# Altium footprint library PAL.PcbLib: 271 footprints (part 7 of 17)
Each footprint in its own frame and in the unit in brackets; x right, y up, seen from the top. Pads: shape width x height; smd on the part's side, far side on the other; paste and mask are expansions set on the pad; w line width, h text height; cw(c..) or ccw(c..) is an arc to the next point about the centre after c.
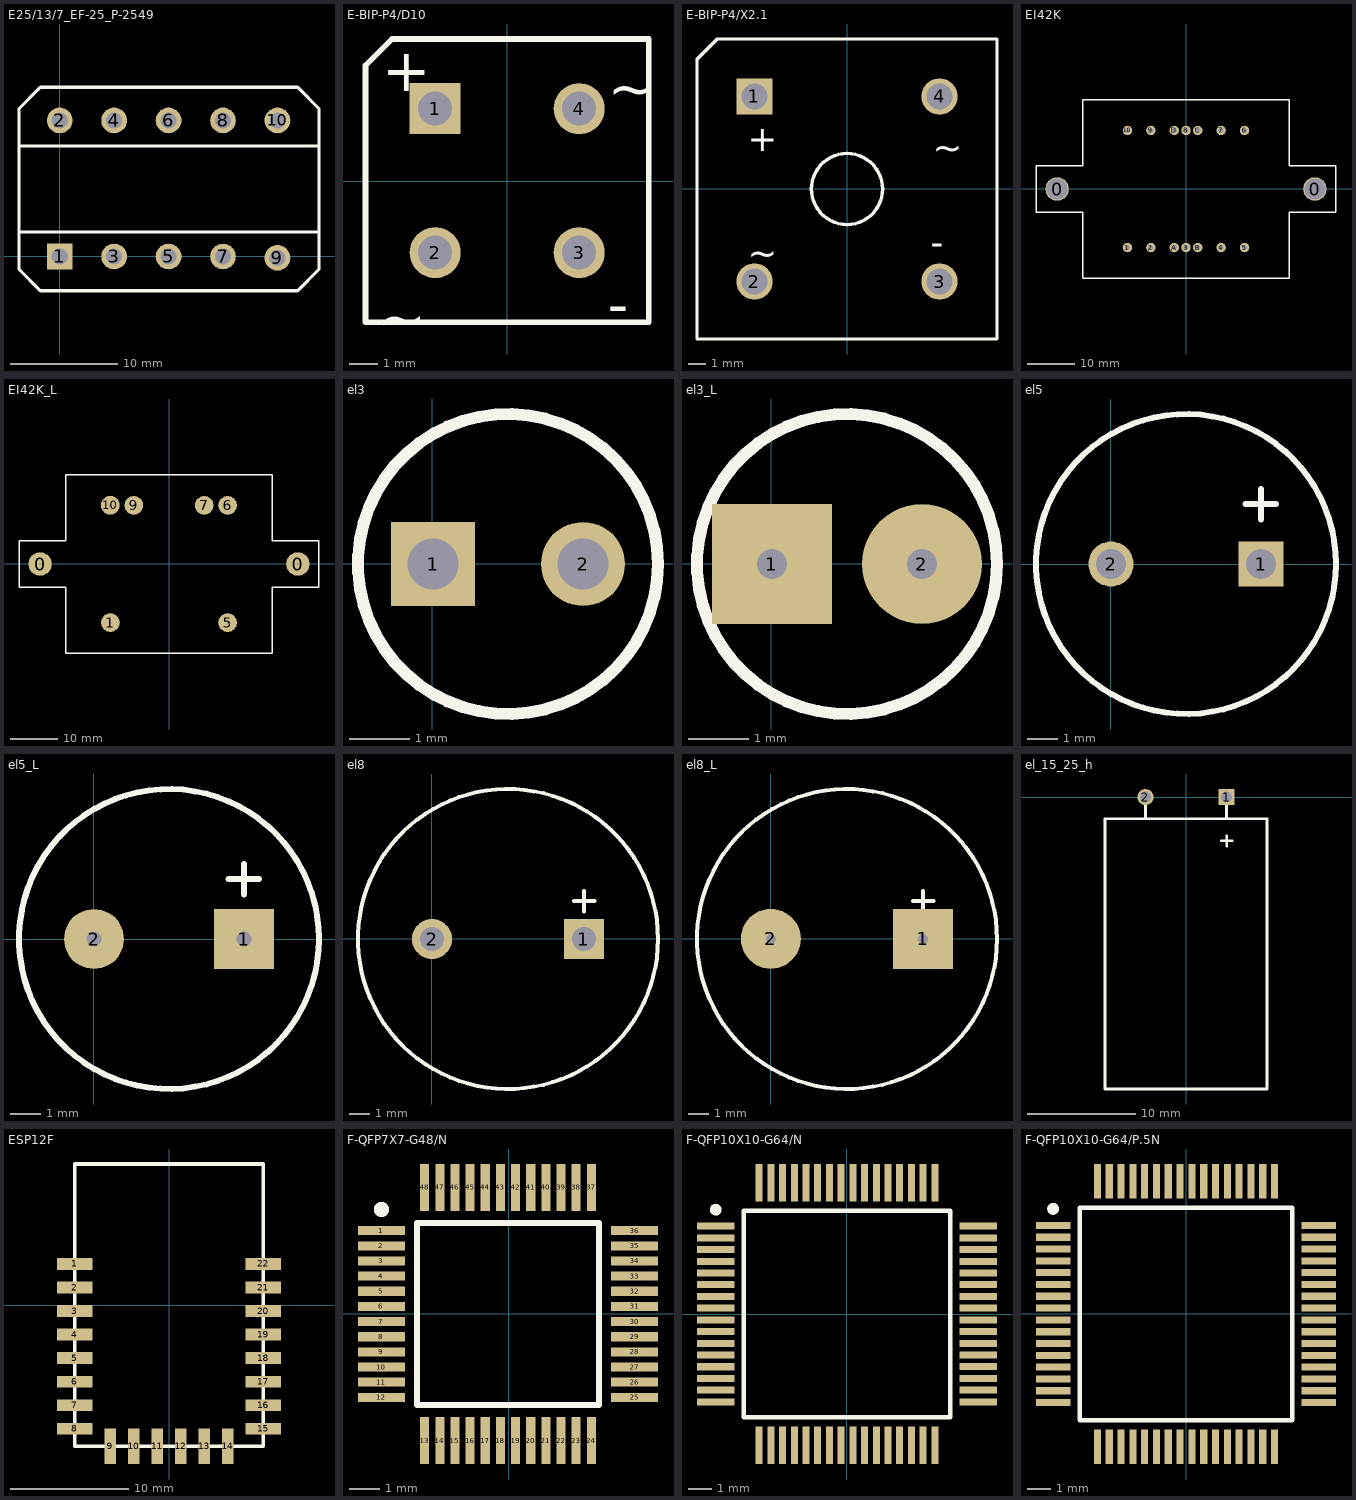
[diagram p6: the footprints below, top view; thin cyan lines are the x and y axes]

## E25/13/7_EF-25_P-2549 [mm]
pads (10):
  rect 2.4x2.4 on Top hole 1.5: 1(0,0)
  round 2.4 on Top hole 1.5: 2(0,12.7) 3(5.08,0) 4(5.08,12.7) 5(10.16,0) 6(10.16,12.7) 7(15.24,0) 8(15.24,12.7) 9(20.32,-0.125) 10(20.32,12.7)
Top Overlay:
  lines w0.3: -3.8,2.3 24.2,2.3 ; -3.8,10.3 24.1,10.3 ; -3.8,-1.2 -1.8,-3.2 22.2,-3.2 24.2,-1.2 24.2,13.8 22.2,15.8 -1.8,15.8 -3.8,13.8 -3.8,-1.2

## E-BIP-P4/D10 [mm]
pads (4):
  rect 1.8x1.8 on Top hole 1.2: 1(-2.536,2.552)
  round 1.8 on Top hole 1.2: 2(-2.536,-2.528) 3(2.544,-2.528) 4(2.544,2.552)
Top Overlay:
  lines w0.2: -4.996,-4.988 5.004,-4.988 5.004,5.012 -4.06,5.012 -4.996,4.076 -4.996,-4.988
  text "~" at 3.56,2.552 h1.5
  text "~" at -4.568,-5.576 h1.5
  text "-" at 3.56,-5.068 h1.5
  text "+" at -4.406,3.176 h1.5

## E-BIP-P4/X2.1 [mm]
pads (4):
  rect 2.1x2.1 on Top hole 1.5: 1(-5.337,5.325)
  round 2.1 on Top hole 1.5: 2(-5.337,-5.345) 3(5.333,-5.345) 4(5.333,5.325)
Top Overlay:
  circle w0.2: c-0.002,-0.01 r2.05
  lines w0.2: -8.652,-8.66 -8.652,7.464 -7.476,8.64 8.648,8.64 8.648,-8.66 -8.652,-8.66
  text "+" at -5.725,2.157 h1.5
  text "-" at 4.823,-3.819 h1.5
  text "~" at 4.943,1.649 h1.5
  text "~" at -5.725,-4.447 h1.5

## EI42K [mm]
pads (16):
  round 5 on Top hole 4.5: 0(-27.504,-0.003) 0(27.496,-0.003)
  round 2 on Top hole 1.1: 1(-12.504,-12.503) 2(-7.504,-12.503) 3(-0.004,-12.503) 4(7.496,-12.503) 5(12.496,-12.503) 6(12.496,12.497) 7(7.496,12.497) 8(-0.004,12.497) 9(-7.504,12.497) 10(-12.504,12.497) A(-2.504,-12.503) B(2.496,-12.503) C(2.496,12.497) D(-2.504,12.497)
Top Overlay:
  lines w0.3: -32.004,-5.003 -32.004,-0.003 -32.004,4.997 -22.004,4.997 -22.004,18.997 21.996,18.997 21.996,4.997 31.996,4.997 31.996,-0.003 31.996,-5.003 21.996,-5.003 21.996,-19.003 -22.004,-19.003 -22.004,-5.003 -32.004,-5.003

## EI42K_L [mm]
pads (8):
  round 5 on Top hole 0.5: 0(-27.504,-0.003) 0(27.496,-0.003)
  round 4 on Top hole 0.5 paste+0 mask+0.5: 1(-12.504,-12.503)
  round 4 on Top hole 0.5: 5(12.496,-12.503) 6(12.496,12.497) 7(7.496,12.497) 9(-7.504,12.497) 10(-12.525,12.525)
Top Overlay:
  lines w0.3: -32.004,-5.003 -32.004,-0.003 -32.004,4.997 -22.004,4.997 -22.004,18.997 21.996,18.997 21.996,4.997 31.996,4.997 31.996,-0.003 31.996,-5.003 21.996,-5.003 21.996,-19.003 -22.004,-19.003 -22.004,-5.003 -32.004,-5.003

## el3 [mm]
pads (2):
  rect 1.4x1.4 on Top hole 0.85: 1(0.011,-0.008)
  round 1.4 on Top hole 0.85: 2(2.511,-0.008)
Top Overlay:
  circle w0.2: c1.261,-0.008 r2.5
  lines w0.3: -0.389,-0.008 0.411,-0.008 ; 0.011,-0.408 0.011,0.392

## el3_L [mm]
pads (2):
  rect 2x2 on Top hole 0.5: 1(0.011,-0.008)
  round 2 on Top hole 0.5: 2(2.511,-0.008)
Top Overlay:
  circle w0.2: c1.261,-0.008 r2.5
  lines w0.3: -0.389,-0.008 0.411,-0.008 ; 0.011,-0.408 0.011,0.392

## el5 [mm]
pads (2):
  rect 1.5x1.5 on Top hole 1: 1(5.001,0.007)
  round 1.5 on Top hole 1: 2(0.001,0.007)
Top Overlay:
  circle w0.2: c2.501,0.007 r5
  lines w0.2: 4.485,2.007 5.501,2.007 ; 5.001,1.491 5.001,2.507

## el5_L [mm]
pads (2):
  rect 2x2 on Top hole 0.5: 1(5.001,0.007)
  round 2 on Top hole 0.5: 2(0.001,0.007)
Top Overlay:
  circle w0.2: c2.501,0.007 r5
  lines w0.2: 4.485,2.007 5.501,2.007 ; 5.001,1.491 5.001,2.507

## el8 [mm]
pads (2):
  rect 2x2 on Top hole 1.2: 1(7.611,-0.011)
  round 2 on Top hole 1.2: 2(0.011,-0.011)
Top Overlay:
  circle w0.2: c3.811,-0.011 r7.5
  lines w0.2: 7.111,1.889 8.127,1.889 ; 7.611,1.373 7.611,2.389

## el8_L [mm]
pads (2):
  rect 3x3 on Top hole 0.5: 1(7.62,0)
  round 3 on Top hole 0.5: 2(0,0)
Top Overlay:
  circle w0.2: c3.811,-0.011 r7.5
  lines w0.2: 7.111,1.889 8.127,1.889 ; 7.611,1.373 7.611,2.389

## el_15_25_h [mm]
pads (2):
  rect 1.5x1.5 on Top hole 1: 1(3.75,0)
  round 1.5 on Top hole 1: 2(-3.75,0)
Top Overlay:
  lines w0.2: 3.26,-4.043 4.276,-4.043 ; 3.776,-4.559 3.776,-3.543
  lines w0.25: -3.75,-2 -3.75,0 ; 3.75,-2 3.75,0 ; -7.5,-27 7.5,-27 7.5,-2 -7.5,-2 -7.5,-27

## ESP12F [mm]
pads (22):
  rect 3x1 smd: 1(-8,3.5) 2(-8,1.5) 3(-8,-0.5) 4(-8,-2.5) 5(-8,-4.5) 6(-8,-6.5) 7(-8,-8.5) 8(-8,-10.5) 15(8,-10.5) 16(8,-8.5) 17(8,-6.5) 18(8,-4.5) 19(8,-2.5) 20(8,-0.5) 21(8,1.5) 22(8,3.5)
  rect 1x3 smd: 9(-5,-12) 10(-3,-12) 11(-1,-12) 12(1,-12) 13(3,-12) 14(5,-12)
Top Overlay:
  lines w0.3: -8,-12 8,-12 8,12 -8,12 -8,-12

## F-QFP7X7-G48/N [mm]
pads (48):
  rect 1.55x0.3 smd: 1(-4.192,2.749) 2(-4.192,2.249) 3(-4.192,1.749) 4(-4.192,1.249) 5(-4.192,0.749) 6(-4.192,0.249) 7(-4.192,-0.251) 8(-4.192,-0.751) 9(-4.192,-1.251) 10(-4.192,-1.751) 11(-4.192,-2.251) 12(-4.192,-2.751) 25(4.158,-2.751) 26(4.158,-2.251) 27(4.158,-1.751) 28(4.158,-1.251) 29(4.158,-0.751) 30(4.158,-0.251) 31(4.158,0.249) 32(4.158,0.749) 33(4.158,1.249) 34(4.158,1.749) 35(4.158,2.249) 36(4.158,2.749)
  rect 0.3x1.55 smd: 13(-2.767,-4.176) 14(-2.267,-4.176) 15(-1.767,-4.176) 16(-1.267,-4.176) 17(-0.767,-4.176) 18(-0.267,-4.176) 19(0.233,-4.176) 20(0.733,-4.176) 21(1.233,-4.176) 22(1.733,-4.176) 23(2.233,-4.176) 24(2.733,-4.176) 37(2.733,4.174) 38(2.233,4.174) 39(1.733,4.174) 40(1.233,4.174) 41(0.733,4.174) 42(0.233,4.174) 43(-0.267,4.174) 44(-0.767,4.174) 45(-1.267,4.174) 46(-1.767,4.174) 47(-2.267,4.174) 48(-2.767,4.174)
Top Overlay:
  circle w0.25: c-4.192,3.449 r0.125
  lines w0.2: -3.017,-3.001 -3.017,2.999 2.983,2.999 2.983,-3.001 -3.017,-3.001

## F-QFP10X10-G64/N [mm]
pads (64):
  rect 1.6x0.3 smd: 1(-5.598,3.754) 2(-5.598,3.254) 3(-5.598,2.754) 4(-5.598,2.254) 5(-5.598,1.754) 6(-5.598,1.254) 7(-5.598,0.754) 8(-5.598,0.254) 9(-5.598,-0.246) 10(-5.598,-0.746) 11(-5.598,-1.246) 12(-5.598,-1.746) 13(-5.598,-2.246) 14(-5.598,-2.746) 15(-5.598,-3.246) 16(-5.598,-3.746) 33(5.602,-3.746) 34(5.602,-3.246) 35(5.602,-2.746) 36(5.602,-2.246) 37(5.602,-1.746) 38(5.602,-1.246) 39(5.602,-0.746) 40(5.602,-0.246) 41(5.602,0.254) 42(5.602,0.754) 43(5.602,1.254) 44(5.602,1.754) 45(5.602,2.254) 46(5.602,2.754) 47(5.602,3.254) 48(5.602,3.754)
  rect 0.3x1.6 smd: 17(-3.748,-5.596) 18(-3.248,-5.596) 19(-2.748,-5.596) 20(-2.248,-5.596) 21(-1.748,-5.596) 22(-1.248,-5.596) 23(-0.748,-5.596) 24(-0.248,-5.596) 25(0.252,-5.596) 26(0.752,-5.596) 27(1.252,-5.596) 28(1.752,-5.596) 29(2.252,-5.596) 30(2.752,-5.596) 31(3.252,-5.596) 32(3.752,-5.596) 49(3.752,5.604) 50(3.252,5.604) 51(2.752,5.604) 52(2.252,5.604) 53(1.752,5.604) 54(1.252,5.604) 55(0.752,5.604) 56(0.252,5.604) 57(-0.248,5.604) 58(-0.748,5.604) 59(-1.248,5.604) 60(-1.748,5.604) 61(-2.248,5.604) 62(-2.748,5.604) 63(-3.248,5.604) 64(-3.748,5.604)
Top Overlay:
  circle w0.25: c-5.598,4.454 r0.125
  lines w0.2: -4.398,-4.396 4.402,-4.396 4.402,4.404 -4.398,4.404 -4.398,-4.396

## F-QFP10X10-G64/P.5N [mm]
pads (64):
  rect 1.45x0.3 smd: 1(-5.627,3.74) 2(-5.627,3.24) 3(-5.627,2.74) 4(-5.627,2.24) 5(-5.627,1.74) 6(-5.627,1.24) 7(-5.627,0.74) 8(-5.627,0.24) 9(-5.627,-0.26) 10(-5.627,-0.76) 11(-5.627,-1.26) 12(-5.627,-1.76) 13(-5.627,-2.26) 14(-5.627,-2.76) 15(-5.627,-3.26) 16(-5.627,-3.76) 33(5.623,-3.76) 34(5.623,-3.26) 35(5.623,-2.76) 36(5.623,-2.26) 37(5.623,-1.76) 38(5.623,-1.26) 39(5.623,-0.76) 40(5.623,-0.26) 41(5.623,0.24) 42(5.623,0.74) 43(5.623,1.24) 44(5.623,1.74) 45(5.623,2.24) 46(5.623,2.74) 47(5.623,3.24) 48(5.623,3.74)
  rect 0.3x1.45 smd: 17(-3.752,-5.635) 18(-3.252,-5.635) 19(-2.752,-5.635) 20(-2.252,-5.635) 21(-1.752,-5.635) 22(-1.252,-5.635) 23(-0.752,-5.635) 24(-0.252,-5.635) 25(0.248,-5.635) 26(0.748,-5.635) 27(1.248,-5.635) 28(1.748,-5.635) 29(2.248,-5.635) 30(2.748,-5.635) 31(3.248,-5.635) 32(3.748,-5.635) 49(3.748,5.615) 50(3.248,5.615) 51(2.748,5.615) 52(2.248,5.615) 53(1.748,5.615) 54(1.248,5.615) 55(0.748,5.615) 56(0.248,5.615) 57(-0.252,5.615) 58(-0.752,5.615) 59(-1.252,5.615) 60(-1.752,5.615) 61(-2.252,5.615) 62(-2.752,5.615) 63(-3.252,5.615) 64(-3.752,5.615)
Top Overlay:
  circle w0.25: c-5.627,4.44 r0.125
  lines w0.2: -4.502,-4.51 4.498,-4.51 4.498,4.49 -4.502,4.49 -4.502,-4.51